# EAGLE library part A3930 (library user)
ブラシレスモーター用ゲートドライバ ハーフブリッジ3個駆動
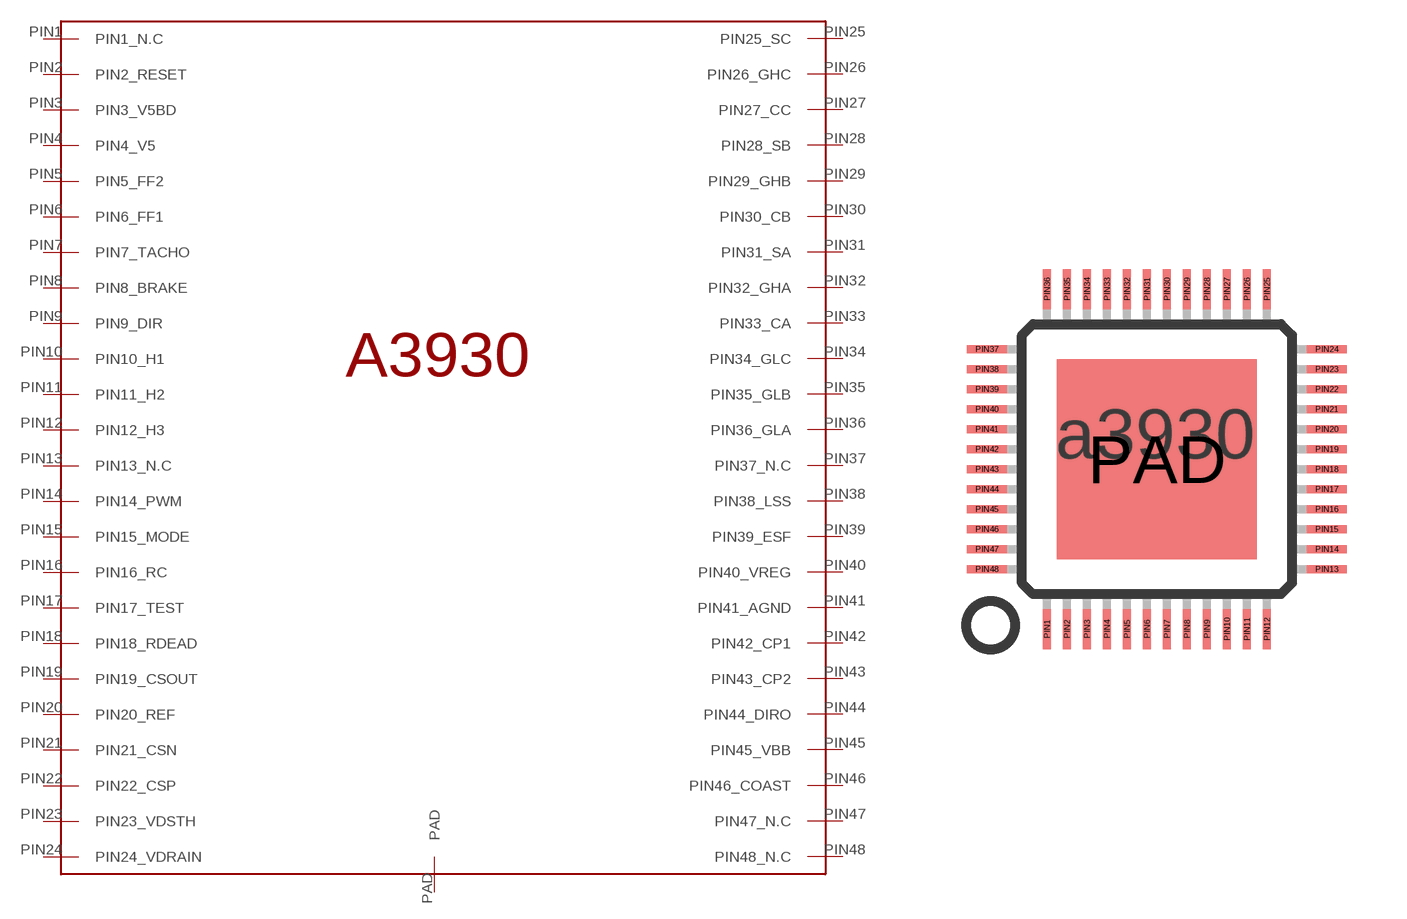
[diagram p8: symbol with the pads of A3930; footprint A3930]

Designator prefix -

## A3930  [A3930]
PAD  PAD
PIN1  PIN1_N.C
PIN2  PIN2_RESET
PIN3  PIN3_V5BD
PIN4  PIN4_V5
PIN5  PIN5_FF2
PIN6  PIN6_FF1
PIN7  PIN7_TACHO
PIN8  PIN8_BRAKE
PIN9  PIN9_DIR
PIN10  PIN10_H1
PIN11  PIN11_H2
PIN12  PIN12_H3
PIN13  PIN13_N.C
PIN14  PIN14_PWM
PIN15  PIN15_MODE
PIN16  PIN16_RC
PIN17  PIN17_TEST
PIN18  PIN18_RDEAD
PIN19  PIN19_CSOUT
PIN20  PIN20_REF
PIN21  PIN21_CSN
PIN22  PIN22_CSP
PIN23  PIN23_VDSTH
PIN24  PIN24_VDRAIN
PIN25  PIN25_SC
PIN26  PIN26_GHC
PIN27  PIN27_CC
PIN28  PIN28_SB
PIN29  PIN29_GHB
PIN30  PIN30_CB
PIN31  PIN31_SA
PIN32  PIN32_GHA
PIN33  PIN33_CA
PIN34  PIN34_GLC
PIN35  PIN35_GLB
PIN36  PIN36_GLA
PIN37  PIN37_N.C
PIN38  PIN38_LSS
PIN39  PIN39_ESF
PIN40  PIN40_VREG
PIN41  PIN41_AGND
PIN42  PIN42_CP1
PIN43  PIN43_CP2
PIN44  PIN44_DIRO
PIN45  PIN45_VBB
PIN46  PIN46_COAST
PIN47  PIN47_N.C
PIN48  PIN48_N.C

## Footprint A3930 (pad centres in mm)
48-pin plastic LQFP (FPT-48P-M26) www.fma.fujitsu.com/pdf/e713717.pdf
smd 5 x 5: PAD 0,0
smd 0.2 x 1: PIN1 -2.75,-4.25; PIN2 -2.25,-4.25; PIN3 -1.75,-4.25; PIN4 -1.25,-4.25; PIN5 -0.75,-4.25; PIN6 -0.25,-4.25; PIN7 0.25,-4.25; PIN8 0.75,-4.25; PIN9 1.25,-4.25; PIN10 1.75,-4.25; PIN11 2.25,-4.25; PIN12 2.75,-4.25; PIN25 2.75,4.25; PIN26 2.25,4.25; PIN27 1.75,4.25; PIN28 1.25,4.25; PIN29 0.75,4.25; PIN30 0.25,4.25; PIN31 -0.25,4.25; PIN32 -0.75,4.25; PIN33 -1.25,4.25; PIN34 -1.75,4.25; PIN35 -2.25,4.25; PIN36 -2.75,4.25
smd 1 x 0.2: PIN13 4.25,-2.75; PIN14 4.25,-2.25; PIN15 4.25,-1.75; PIN16 4.25,-1.25; PIN17 4.25,-0.75; PIN18 4.25,-0.25; PIN19 4.25,0.25; PIN20 4.25,0.75; PIN21 4.25,1.25; PIN22 4.25,1.75; PIN23 4.25,2.25; PIN24 4.25,2.75; PIN37 -4.25,2.75; PIN38 -4.25,2.25; PIN39 -4.25,1.75; PIN40 -4.25,1.25; PIN41 -4.25,0.75; PIN42 -4.25,0.25; PIN43 -4.25,-0.25; PIN44 -4.25,-0.75; PIN45 -4.25,-1.25; PIN46 -4.25,-1.75; PIN47 -4.25,-2.25; PIN48 -4.25,-2.75